# Altium schematic symbol library UWRT_Schematic_Library_2020.SchLib: 205 symbols (part 4 of 4)
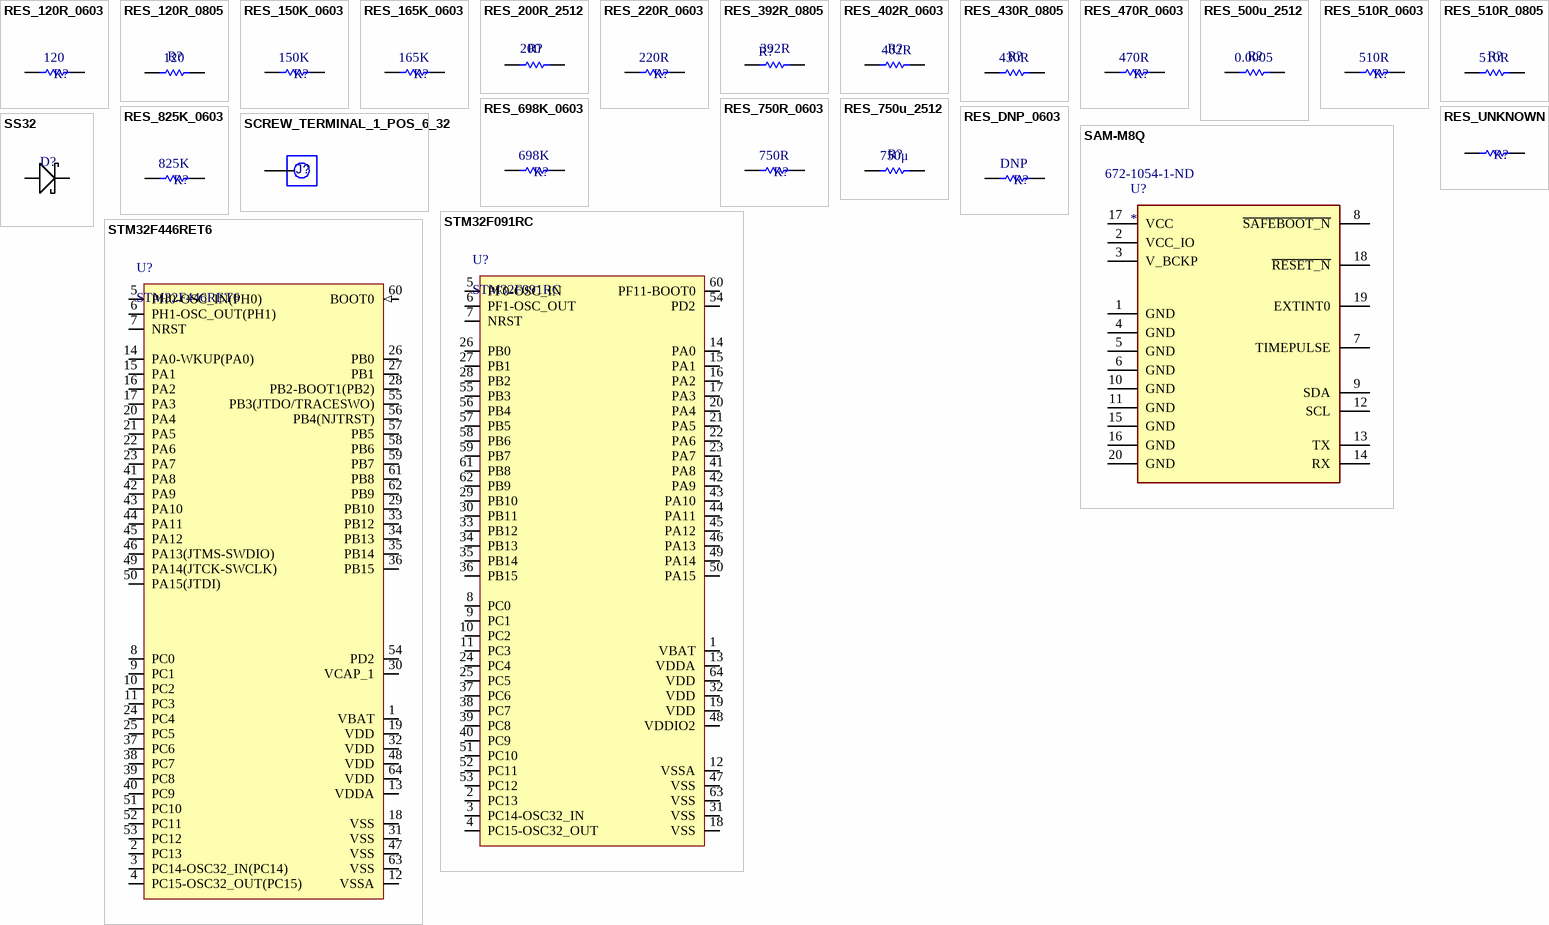
[diagram p8: symbols RES_120R_0603 to STM32F446RET6]

## STM32F446RET6
designator U?
IC MCU 32BIT 512KB FLASH 64LQFP; Manufacturer 1: STMicroelectronics; Manufacturer Part Number 1: LF80CDT-TR; Supplier 1: Digi-Key; Supplier Part Number 1: 497-15376-ND; Mount: Surface Mount
footprint STM_LQFP64_N (Thin QFP, 64-Leads, Body 10x10mm, Pitch 0.5mm, IPC Medium Density)
pins: 1 VBAT (power), 2 PC13 (io) "PC13/EVENTOUT/TAMP_1/WKUP1", 3 PC14-OSC32_IN(PC14) (io) "PC14/EVENTOUT/OSC32_IN", 4 PC15-OSC32_OUT(PC15) (io) "PC15/EVENTOUT/OSC32_OUT", 5 PH0-OSC_IN(PH0) (io) "PH0/EVENTOUT/OSC_IN", 6 PH1-OSC_OUT(PH1) (io) "PH1/EVENTOUT/OSC_OUT", 7 NRST (io), 8 PC0 (io) "PC0/SAI1_MCLK_B,OTG_HS_ULPI_STP,FMC_SDNWE,EVENTOUT/ADC123_IN10", 9 PC1 (io) "PC1/SPI3_MOSI/I2S3_SD,SAI1_SD_A,SPI2_MOSI/I2S2_SD,EVENTOUT/ADC123_IN11", 10 PC2 (io) "PC2/SPI2_MISO,OTG_HS_ULPI_DIR,FMC_SDNE0,EVENTOUT/ADC123_IN12", 11 PC3 (io) "PC3/SPI2_MOSI/I2S2_SD,OTG_HS_ULPI_NXT,FMC_SDCKE0,EVENTOUT/ADC123_IN13", 12 VSSA (power), 13 VDDA (power), 14 PA0-WKUP(PA0) (io) "PA0-WKUP(PA0)/TIM2_CH1/TIM2_ETR,TIM5_CH1,TIM8_ETR,USART2_CTS,UART4_TX,EVENTOUT/ADC123_IN0,WKUP0/TAMP_2", 15 PA1 (io) "PA1/TIM2_CH2,TIM5_CH2,USART2_RTS,UART4_RX,QUADSPI_BK1_IO3,SAI2_MCLK_B,EVENTOUT/ADC123_IN1", 16 PA2 (io) "PA2/TIM2_CH3,TIM5_CH3,TIM9_CH1,USART2_TX,SAI2_SCK_B,EVENTOUT/ADC123_IN2", 17 PA3 (io) "PA3/TIM2_CH4,TIM5_CH4,TIM9_CH2,SAI1_FS_A,USART2_RX,OTG_HS_ULPI_D0,EVENTOUT/ADC123_IN3", 18 VSS (power), 19 VDD (power), 20 PA4 (io) "PA4/SPI1_NSS/I2S1_WS,SPI3_NSS/I2S3_WS,USART2_CK,OTG_HS_SOF,DCMI_HSYNC,EVENTOUT/ADC12_IN4,DAC_OUT1", 21 PA5 (io) "PA5/TIM2_CH1/TIM2_ETR,TIM8_CH1N,SPI1_SCK/I2S1_CK,OTG_HS_ULPI_CK,EVENTOUT/ADC12_IN5,DAC_OUT2", 22 PA6 (io) "PA6/TIM1_BKIN,TIM3_CH1,TIM8_BKIN,SPI1_MISO,I2S2_MCK,TIM13_CH1,DCMI_PIXCLK,EVENTOUT/ADC12_IN6", 23 PA7 (io) "PA7/TIM1_CH1N,TIM3_CH2,TIM8_CH1N,SPI1_MOSI/I2S1_SD,TIM14_CH1,FMC_SDNWE,EVENTOUT/ADC12_IN7", 24 PC4 (io) "PC4/I2S1_MCK,SPDIFRX_IN2,FMC_SDNE0,EVENTOUT/ADC12_IN14", 25 PC5 (io) "PC5/USART3_RX,SPDIFRX_IN3,FMC_SDCKE0,EVENTOUT/ADC12_IN15", 26 PB0 (io) "PB0/TIM1_CH2N,TIM3_CH3,TIM8_CH2N,SPI3_MOSI/I2S3_SD,UART4_CTS,OTG_HS_ULPI_D1,SDIO_D1,EVENTOUT/ADC12_IN8", 27 PB1 (io) "PB1/TIM1_CH3N,TIM3_CH4,TIM8_CH3N,OTG_HS_ULPI_D2,SDIO_D2,EVENTOUT/ADC12_IN9", 28 PB2-BOOT1(PB2) (io) "PB2-BOOT1(PB2)/TIM2_CH4,SAI1_SD_A,SPI3_MOSI/I2S3_SD,QUADSPI_CLK,OTG_HS_ULPI_D4,SDIO_CK,EVENTOUT", 29 PB10 (io) "PB10/TIM2_CH3,I2C2_SCL,SPI2_SCK/I2S2_CK,SAI1_SCK_A,USART3_TX,OTG_HS_ULPI_D3,EVENTOUT", 30 VCAP_1, 31 VSS (power), 32 VDD (power), 33 PB12 (io) "PB12/TIM1_BKIN,I2C2_SMBA,SPI2_NSS/I2S2_WS,SAI1_SCK_B,USART3_CK,CAN2_RX,OTG_HS_ULPI_D5,OTG_HS_ID,EVENTOUT", 34 PB13 (io) "PB13/TIM1_CH1N,SPI2_SCK/I2S2_CK,USART3_CTS,CAN2_TX,OTG_HS_ULPI_D6,EVENTOUT/OTG_HS_VBUS", 35 PB14 (io) "PB14/TIM1_CH2N,TIM8_CH2N,SPI2_MISO,USART3_RTS,TIM12_CH1,OTG_HS_DM,EVENTOUT", 36 PB15 (io) "PB15/RTC_REFIN,TIM1_CH3N,TIM8_CH3N,SPI2_MOSI/I2S2_SD,TIM12_CH2,OTG_HS_DP,EVENTOUT", 37 PC6 (io) "PC6/TIM3_CH1,TIM8_CH1,FMPI2C1_SCL,I2S2_MCK,USART6_TX,SDIO_D6,DCMI_D0,EVENTOUT", 38 PC7 (io) "PC7/TIM3_CH2,TIM8_CH2,FMPI2C1_SDA,SPI2_SCK/I2S2_CK,I2S3_MCK,SPDIFRX_IN1,USART6_RX,SDIO_D7,DCMI_D1,EVENTOUT", 39 PC8 (io) "PC8/TRACED0,TIM3_CH3,TIM8_CH3,UART5_RTS,USART6_CK,SDIO_D0,DCMI_D2,EVENTOUT", 40 PC9 (io) "PC9/MCO2,TIM3_CH4,TIM8_CH4,I2C3_SDA,I2S_CKIN,UART5_CTS,QUADSPI_BK1_IO0,SDIO_D1,DCMI_D3,EVENTOUT", 41 PA8 (io) "PA8/MCO1,TIM1_CH1,I2C3_SCL,USART1_CK,OTG_FS_SOF,EVENTOUT", 42 PA9 (io) "PA9/TIM1_CH2,I2C3_SMBA,SPI2_SCK/I2S2_CK,SAI1_SD_B,USART1_TX,DCMI_D0,EVENTOUT/OTG_FS_VBUS", 43 PA10 (io) "PA10/TIM1_CH3,USART1_RX,OTG_FS_ID,DCMI_D1,EVENTOUT", 44 PA11 (io) "PA11/TIM1_CH4,USART1_CTS,CAN1_RX,OTG_FS_DM,EVENTOUT", 45 PA12 (io) "PA12/TIM1_ETR,USART1_RTS,SAI2_FS_B,CAN1_TX,OTG_FS_DP,EVENTOUT", 46 PA13(JTMS-SWDIO) (io) "PA13/JTMS-SWDIO,EVENTOUT", 47 VSS (power), 48 VDD (power), 49 PA14(JTCK-SWCLK) (io) "PA14/JTCK-SWCLK,EVENTOUT", 50 PA15(JTDI) (io) "PA15/JTDI,TIM2_CH1/TIM2_ETR,HDMI_CEC,SPI1_NSS/I2S1_WS,SPI3_NSS/I2S3_WS,UART4_RTS,EVENTOUT", 51 PC10 (io) "PC10/SPI3_SCK/I2S3_CK,USART3_TX,UART4_TX,QUADSPI_BK1_IO1,SDIO_D2,DCMI_D8,EVENTOUT", 52 PC11 (io) "PC11/SPI3_MISO,USART3_RX,UART4_RX,QUADSPI_BK2_NCS,SDIO_D3,DCMI_D4,EVENTOUT", 53 PC12 (io) "PC12/I2C2_SDA,SPI3_MOSI/I2S3_SD,USART3_CK,UART5_TX,SDIO_CK,DCMI_D9,EVENTOUT", 54 PD2 (io) "PD2/TIM3_ETR,UART5_RX,SDIO_CMD,DCMI_D11,EVENTOUT", 55 PB3(JTDO/TRACESWO) (io) "PB3/JTDO/TRACESWO,TIM2_CH2,I2C2_SDA,SPI1_SCK/I2S1_CK,SPI3_SCK/I2S3_CK,EVENTOUT", 56 PB4(NJTRST) (io) "PB4/NJTRST,TIM3_CH1,I2C3_SDA,SPI1_MISO,SPI3_MISO,SPI2_NSS/I2S2_WS,EVENTOUT", 57 PB5 (io) "PB5/TIM3_CH2,I2C1_SMBA,SPI1_MOSI/I2S1_SD,SPI3_MOSI/I2S3_SD,CAN2_RX,OTG_HS_ULPI_D7,FMC_SDCKE1,DCMI_D10,EVENTOUT", 58 PB6 (io) "PB6/TIM4_CH1,HDMI_CEC,I2C1_SCL,USART1_TX,CAN2_TX,QUADSPI_BK1_NCS,FMC_SDNE1,DCMI_D5,EVENTOUT", 59 PB7 (io) "PB7/TIM4_CH2,I2C1_SDA,USART1_RX,SPDIFRX_IN0,FMC_NL,DCMI_VSYNC,EVENTOUT", 60 BOOT0 (in) "BOOT0/VPP", 61 PB8 (io) "PB8/TIM2_CH1/TIM2_ETR,TIM4_CH3,TIM10_CH1,I2C1_SCL,CAN1_RX,SDIO_D4,DCMI_D6,EVENTOUT", 62 PB9 (io) "PB9/TIM2_CH2,TIM4_CH4,TIM11_CH1,I2C1_SDA,SPI2_NSS/I2S2_WS,SAI1_FS_B,CAN1_TX,SDIO_D5,DCMI_D7,EVENTOUT", 63 VSS (power), 64 VDD (power)

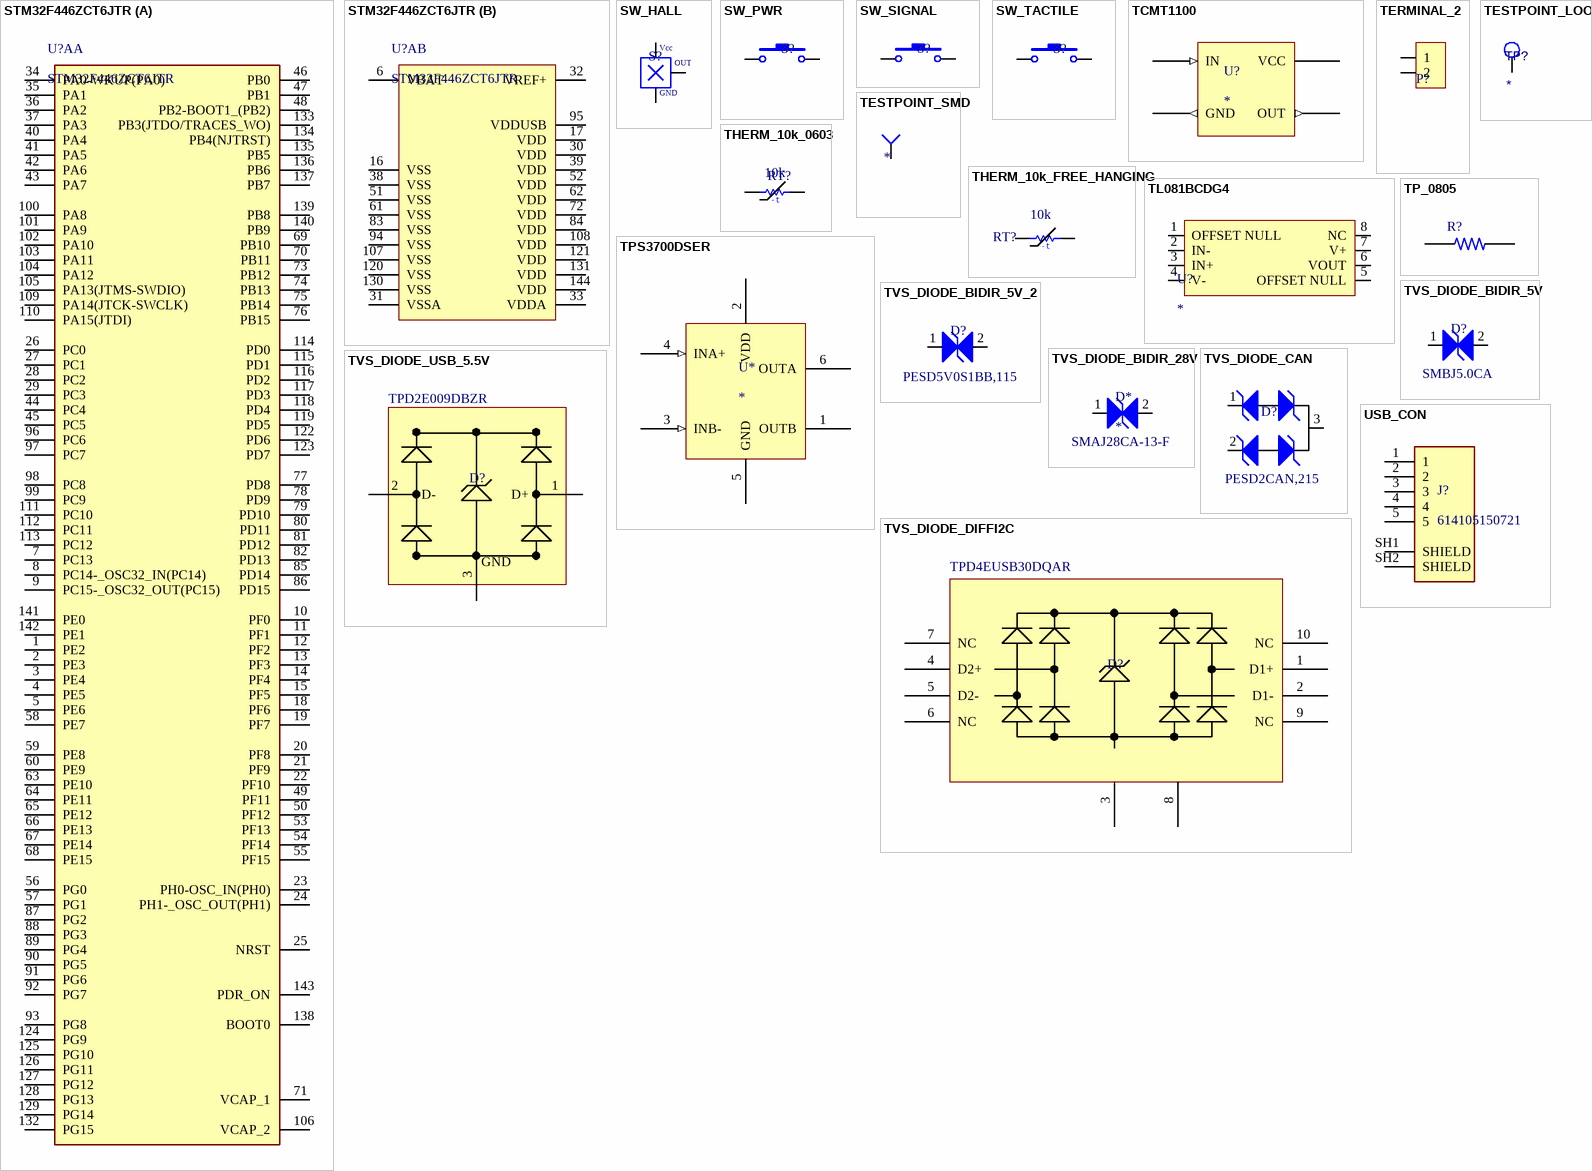
[diagram p5: symbols STM32F446ZCT6JTR to USB_CON]

## STM32F446ZCT6JTR
designator U?A
IC MCU 32BIT 256KB FLASH 144LQFP; Manufacturer_Name: STMicroelectronics; Datasheet Link: https://componentsearchengine.com/Datasheets/1/STM32F446ZCT6JTR.pdf; Height: 1.6mm; Manufacturer_Part_Number: STM32F446ZCT6JTR; Mouser Part Number: 511-STM32F446ZCT6JTR; Mouser Price/Stock: https://www.mouser.com/Search/Refine.aspx?Keyword=511-STM32F446ZCT6JTR
footprint QFP50P2200X2200X160-144N
part A pins: 1 PE2, 2 PE3, 3 PE4, 4 PE5, 5 PE6, 7 PC13, 8 PC14-_OSC32_IN(PC14), 9 PC15-_OSC32_OUT(PC15), 10 PF0, 11 PF1, 12 PF2, 13 PF3, 14 PF4, 15 PF5, 18 PF6, 19 PF7, 20 PF8, 21 PF9, 22 PF10, 23 PH0-OSC_IN(PH0), 24 PH1-_OSC_OUT(PH1), 25 NRST, 26 PC0, 27 PC1, 28 PC2, 29 PC3, 34 PA0-WKUP(PA0), 35 PA1, 36 PA2, 37 PA3, 40 PA4, 41 PA5, 42 PA6, 43 PA7, 44 PC4, 45 PC5, 46 PB0, 47 PB1, 48 PB2-BOOT1_(PB2), 49 PF11, 50 PF12, 53 PF13, 54 PF14, 55 PF15, 56 PG0, 57 PG1, 58 PE7, 59 PE8, 60 PE9, 63 PE10, 64 PE11, 65 PE12, 66 PE13, 67 PE14, 68 PE15, 69 PB10, 70 PB11, 71 VCAP_1, 73 PB12, 74 PB13, 75 PB14, 76 PB15, 77 PD8, 78 PD9, 79 PD10, 80 PD11, 81 PD12, 82 PD13, 85 PD14, 86 PD15, 87 PG2, 88 PG3, 89 PG4, 90 PG5, 91 PG6, 92 PG7, 93 PG8, 96 PC6, 97 PC7, 98 PC8, 99 PC9, 100 PA8, 101 PA9, 102 PA10, 103 PA11, 104 PA12, 105 PA13(JTMS-SWDIO), 106 VCAP_2, 109 PA14(JTCK-SWCLK), 110 PA15(JTDI), 111 PC10, 112 PC11, 113 PC12, 114 PD0, 115 PD1, 116 PD2, 117 PD3, 118 PD4, 119 PD5, 122 PD6, 123 PD7, 124 PG9, 125 PG10, 126 PG11, 127 PG12, 128 PG13, 129 PG14, 132 PG15, 133 PB3(JTDO/TRACES_WO), 134 PB4(NJTRST), 135 PB5, 136 PB6, 137 PB7, 138 BOOT0, 139 PB8, 140 PB9, 141 PE0, 142 PE1, 143 PDR_ON
part B pins: 6 VBAT, 16 VSS, 17 VDD, 30 VDD, 31 VSSA, 32 VREF+, 33 VDDA, 38 VSS, 39 VDD, 51 VSS, 52 VDD, 61 VSS, 62 VDD, 72 VDD, 83 VSS, 84 VDD, 94 VSS, 95 VDDUSB, 107 VSS, 108 VDD, 120 VSS, 121 VDD, 130 VSS, 131 VDD, 144 VDD

## SW_HALL
designator S?  (value not drawn)
HALL EFFECT SWITCH; Manufacturer 1: Texas Instruments; Manufacturer Part Number 1: DRV5011ADDBZR; Logic Function: Latch; Max Supply Current: 3mA; Max Output Current: 30mA; Supplier 1: Digi-Key; Stock 1: 2421; Pricing 1: 1=0.89000, 5=0.84200, 10=0.73300, 25=0.64360, 50=0.53460, 100=0.45540, 500=0.39600, 1000=0.34650 (USD); RoHS: No; Case/Package: TO-236-3; Min Operating Temperature: -40°C; Max Operating Temperature: 135°C; Packaging: Tape and Reel; Sensing Method: Hall Effect; ComponentLink1URL: http://www.ti.com/general/docs/suppproductinfo.tsp?distId=10&amp;gotoUrl=http%3A%2F%2Fwww.ti.com%2Flit%2Fgpn%2Fdrv5011&src-supplier=Digi-Key; ComponentLink1Description: http://www.ti.com/general/docs/suppproductinfo.tsp?distId=10&amp;gotoUrl=http%3A%2F%2Fwww.ti.com%2Flit%2Fgpn%2Fdrv5011&src-supplier=Digi-Key; ComponentLink2URL: http://www.ti.com/lit/ds/symlink/drv5011.pdf?src-supplier=Digi-Key; ComponentLink2Description: http://www.ti.com/lit/ds/symlink/drv5011.pdf?src-supplier=Digi-Key; Supplier Part Number 1: 296-49621-1-ND
footprint SOT23-3 (SOT23, 3-Leads, Body 2.90x2.30mm, Pitch 0.95mm, IPC Medium Density)
pins: 1, 2, 3
text: Vcc; OUT; GND

## SW_PWR
designator S?
Power Switch (Red); Manufacturer Part Number 1: PTS830GM140 SMTR LFS; Manufacturer 1: C&K; ComponentLink1Description: Datasheet; ComponentLink1URL: https://www.ckswitches.com/media/1478/pts830.pdf; Supplier Part Number 1: CKN10587CT-ND; Supplier 1: Digi-Key; Mount: Surface Mount
footprint PTS830GM140 (PWR TACTILE SWITCH (RED)); pin to pad 2>4
pins: 1, 2

## SW_SIGNAL
designator S?
Tactile Switch (Grey); Manufacturer Part Number 1: B3U-1100P; Manufacturer 1: Omron Electronics Inc-EMC Div; Supplier Part Number 1: SW1021TR-ND; Supplier 1: Digi-Key; Mount: Surface Mount
footprint B3U-1100P (TACTILE SWITCH GREY)
pins: 1, 2

## SW_TACTILE
designator S?
Tactile Switch (Grey); Manufacturer Part Number 1: B3U-1100P; Manufacturer 1: Omron Electronics Inc-EMC Div; Supplier 1: Digi-Key; Supplier Part Number 1: SW1021CT-ND; Mount: Surface Mount
footprint B3U-1100P (TACTILE SWITCH GREY)
pins: 1, 2

## TCMT1100
designator U?
OPTOISOLATOR 1 CHANNEL 4-SOP; Manufacturer 1: Vishay Semiconductor Opto Division; Manufacturer Part Number 1: TCMT1100; Supplier 1: Digi-Key; Supplier Part Number 1: TCMT1100TR-ND; Mount: Surface Mount
footprint SOP-4L_TC
pins: 1 IN (in) "High voltage signal in", 2 GND (out), 3 OUT (out) "Low voltage signal out", 4 VCC "Low voltage source"

## TERMINAL_2
designator P?
Header, 2-Pin; Manufacturer Part Number 1: OSTYK51102030; Manufacturer 1: On Shore Technology Inc.; Supplier Part Number 1: ED2953-ND; Supplier 1: Digi-Key; Mount: Through Hole
signal-integrity model Connector
footprint OSTYK51102030 (Connector; Header; 2 Position)
pins: 1, 2

## TESTPOINT_LOOP
designator TP?
Loop testpoint through-hole pad; Manufacturer 1: Keystone Electronics; Manufacturer Part Number 1: 5002; Supplier Part Number 1: 36-5002-ND; Supplier 1: Digi-Key; Mount: Through Hole
footprint TESTPOINT_LOOP
pins: 1

## TESTPOINT_SMD
designator TP?
TESTPOINT_SMD; Part Number (MPN): *
footprint TESTPOINT
pins: 1 =value

## THERM_10k_0603
designator RT?  Resistance: 10k  (hidden comment: *)
THERMISTOR NTC 10K 1% OHM 0603; Manufacturer 1: TDK; Manufacturer Part Number 1: NTCG163JF103FT1; Supplier 1: Digi-Key; Stock 1: 94107; Pricing 1: 1=0.25000, 5=0.23600, 10=0.20900, 25=0.19240, 50=0.15400, 100=0.13200, 500=0.11550, 1000=0.09900 (USD); RoHS: Yes; Mount: Surface Mount; Case/Package: 0603; Number of Pins: 2; Case Code (Imperial): 0603; Case Code (Metric): 1608; Min Operating Temperature: -40°C; Max Operating Temperature: 125°C; Package Quantity: 4000; Tolerance: 1%; Packaging: Tape and Reel; Accuracy: 1%; Length: 1.6mm; Height: 0.8mm; Depth: 0.8mm; Radiation Hardening: No; Lead Free: Lead Free; ComponentLink1URL: https://datasheet.ciiva.com/11822/0900766b80feea16-11822415.pdf?src-supplier=RSComponents; ComponentLink1Description: https://datasheet.ciiva.com/11822/0900766b80feea16-11822415.pdf?src-supplier=RSComponents; ComponentLink2URL: https://datasheet.ciiva.com/2848/ntcg163jf103ft1-web-2848612.pdf?src-supplier=Digi-Key; ComponentLink2Description: https://datasheet.ciiva.com/2848/ntcg163jf103ft1-web-2848612.pdf?src-supplier=Digi-Key; ComponentLink3URL: https://datasheet.ciiva.com/2848/ntcg163jf103ft1-web-2848610.pdf?src-supplier=Digi-Key; ComponentLink3Description: https://datasheet.ciiva.com/2848/ntcg163jf103ft1-web-2848610.pdf?src-supplier=Digi-Key; ComponentLink4URL: https://datasheet.ciiva.com/2848/ntcg163jf103ft1-web-2848611.pdf?src-supplier=Digi-Key; ComponentLink4Description: https://datasheet.ciiva.com/2848/ntcg163jf103ft1-web-2848611.pdf?src-supplier=Digi-Key; Supplier Part Number 1: 445-2554-1-ND
footprint RESC0603(1608)_N (Chip Resistor, Body 1.6x0.8mm, IPC Medium Density)
pins: 1, 2
text: -t

## THERM_10k_FREE_HANGING
designator RT?  Resistance: 10k  (hidden comment: *)
THERMISTOR NTC 10KOHM 3380K BEAD; Manufacturer 1: Murata; Manufacturer Part Number 1: NXFT15XH103FA2B100; Power Rating: 7.5mW; Tolerance: 1%; Current Rating: 120uA; Max Power Dissipation: 100mW; Lead Diameter: 0.3mm; Supplier 1: Digi-Key; RoHS: Yes; Category: Interface ICs; Stock 1: 19053; Pricing 1: 1=0.91000, 5=0.86400, 10=0.75200, 25=0.66080, 50=0.54900, 100=0.46760, 500=0.40660, 1000=0.35578, 5000=0.31512 (USD); Mount: Free Hanging,Through Hole; Case/Package: Radial; Number of Pins: 2; Min Operating Temperature: -40°C; Max Operating Temperature: 125°C; Packaging: Bulk; Package Quantity: 1000; Termination: Wire; ComponentLink1URL: https://datasheet.ciiva.com/2849/r44e-2849356.pdf?src-supplier=Digi-Key; ComponentLink1Description: https://datasheet.ciiva.com/2849/r44e-2849356.pdf?src-supplier=Digi-Key; ComponentLink2URL: https://datasheet.ciiva.com/3282/r44e-3282445.pdf?src-supplier=Avnet; ComponentLink2Description: https://datasheet.ciiva.com/3282/r44e-3282445.pdf?src-supplier=Avnet
footprint PTH_THERMISTOR (Thermistor; Free Hanging)
pins: 1, 2
text: -t

## TL081BCDG4
designator U?
IC OPAMP JFET 3MHZ 8SOIC; Manufacturer Part Number 1: TL081BCD; Manufacturer 1: Texas Instruments; Supplier Part Number 1: 296-34259-5-ND; Supplier 1: Digi-Key; Mount: Surface Mount
footprint TL081BCDG4
pins: 1 OFFSET NULL, 2 IN-, 3 IN+, 4 V-, 5 OFFSET NULL, 6 VOUT, 7 V+, 8 NC

## TP_0805
designator R?
SMD TEST POINT; Manufacturer 1: TE Connectivity CGS; Manufacturer Part Number 1: RCT-0C; Resistance: 0mR; Current Rating: 2A; Tolerance: 0%; Power Rating: 0uW; SnapEDA_Link: https://www.snapeda.com/parts/RCT-0C/TE%20Connectivity%20AMP%20Connectors/view-part/492179/?ref=snap; Supplier 1: Digi-Key; Stock 1: 102584; Pricing 1: 1=0.24000, 10=0.22800, 25=0.19560, 50=0.16640, 100=0.15980, 250=0.14352, 500=0.13698, 1000=0.11416 (USD); RoHS: Yes; Mount: Surface Mount; Case/Package: 0805; Weight: 0.000194oz; Case Code (Imperial): 0805; Case Code (Metric): 2012; Min Operating Temperature: -55°C; Max Operating Temperature: 125°C; Packaging: Tape and Reel; Package Quantity: 2000; Termination: SMD/SMT; Length: 2mm; Height: 1.45mm; Depth: 1.2mm; Width: 1.2mm; Radiation Hardening: No; ELV: Compliant; REACH SVHC: No SVHC; ComponentLink1URL: https://datasheet.ciiva.com/1347/80691-1347408.pdf?src-supplier=Farnell; ComponentLink1Description: https://datasheet.ciiva.com/1347/80691-1347408.pdf?src-supplier=Farnell; ComponentLink2URL: https://datasheet.ciiva.com/11808/0900766b80b23b2c-11808713.pdf?src-supplier=RSComponents; ComponentLink2Description: https://datasheet.ciiva.com/11808/0900766b80b23b2c-11808713.pdf?src-supplier=RSComponents; ComponentLink3URL: https://datasheet.ciiva.com/1340/80691-1340020.pdf?src-supplier=Element14; ComponentLink3Description: https://datasheet.ciiva.com/1340/80691-1340020.pdf?src-supplier=Element14; ComponentLink4URL: https://datasheet.ciiva.com/22696/80691-22696538.pdf?src-supplier=Element14; ComponentLink4Description: https://datasheet.ciiva.com/22696/80691-22696538.pdf?src-supplier=Element14; ComponentLink5URL: https://datasheet.ciiva.com/30055/1773266-a-30055419.pdf?src-supplier=Onlinecomponents.com; ComponentLink5Description: https://datasheet.ciiva.com/30055/1773266-a-30055419.pdf?src-supplier=Onlinecomponents.com; Supplier Part Number 1: A106144CT-ND
footprint *RESC2012X65N
pins: 1, 2

## TPS3700DSER
designator U*
Comparator Window Open Drain 6-WSON (1.5x1.5)
footprint DSE0006A
pins: 1 OUTB (oc), 2 VDD (power), 3 INB- (in), 4 INA+ (in), 5 GND (power), 6 OUTA (oc)

## TVS_DIODE_BIDIR_5V
designator D?  Manufacturer Part Number 1: SMBJ5.0CA
TVS DIODE 5V 9.2V DO214AA; Manufacturer 1: Littelfuse; Direction: Bidirectional; Max Surge Current: 65.3A; Reverse Breakdown Voltage: 6.4V; Peak Pulse Power: 600W; Max Breakdown Voltage: 7V; ESD Protection: Yes; Package: DO-214AA, SMB; ComponentLink1Description: Datasheet; ComponentLink1URL: https://www.littelfuse.com/~/media/electronics/datasheets/tvs_diodes/littelfuse_tvs_diode_smbj_datasheet.pdf.pdf; Supplier Part Number 1: SMBJ5.0CALFCT-ND; Supplier 1: Digi-Key; Mount: Surface Mount; Min Operating Temperature: -65°C; Max Operating Temperature: 150°C; Reverse Standoff Voltage: 5V; Min Breakdown Voltage: 6.4V; Clamping Voltage: 9.2V; Breakdown Voltage: 6.4V; Polarity: Bidirectional; Power Dissipation: 600W; Peak Pulse Current: 65.3A; Composition: Zener
footprint TVS_DIODE_BIDIRECTIONAL
pins: 1, 2

## TVS_DIODE_BIDIR_5V_2
designator D?  Manufacturer Part Number 1: PESD5V0S1BB,115  (hidden comment: *)
TVS DIODE 5V 14V SOD-523; Manufacturer 1: Nexperia; Voltage - Reverse Standoff (Typ): 5V (Max); Voltage - Breakdown: 5.5V (Min); Supplier 1: Digi-Key; Stock 1: 221709; Pricing 1: 1=0.37000, 10=0.27200, 25=0.23840, 100=0.12940, 250=0.12876, 500=0.10558, 1000=0.07834 (USD); RoHS: No; ComponentLink1URL: https://www.mouser.com/ds/2/302/PESD5V0S1BA_BB_BL-1150699.pdf?src-supplier=Mouser; ComponentLink1Description: https://www.mouser.com/ds/2/302/PESD5V0S1BA_BB_BL-1150699.pdf?src-supplier=Mouser; ComponentLink2URL: http://www.farnell.com/datasheets/461331.pdf?src-supplier=Farnell; ComponentLink2Description: http://www.farnell.com/datasheets/461331.pdf?src-supplier=Farnell; ComponentLink3URL: http://www.farnell.com/datasheets/461331.pdf?src-supplier=Newark; ComponentLink3Description: http://www.farnell.com/datasheets/461331.pdf?src-supplier=Newark; ComponentLink4URL: https://assets.nexperia.com/documents/data-sheet/PESD5V0S1BA_BB_BL.pdf?src-supplier=Digi-Key; ComponentLink4Description: https://assets.nexperia.com/documents/data-sheet/PESD5V0S1BA_BB_BL.pdf?src-supplier=Digi-Key; Supplier Part Number 1: 1727-3838-1-ND; Voltage - Clamping (Max) @Ipp: 14V
footprint SOD523
pins: 1, 2

## TVS_DIODE_BIDIR_28V
designator D*  Manufacturer Part Number 1: SMAJ28CA-13-F
TVS DIODE 28V 45.4V SMA; Manufacturer 1: Diodes Incorporated; Polarity: Bidirectional; Voltage - Breakdown (Min): 31.1V; Current - Peak Pulse (10/1000 us): 8.8A; Power - Peak Pulse: 400W; Packaging: Cut Tape (CT); Type: Zener; Voltage - Reverse Standoff: 28V; Voltage - Clamping (Max) @ Ipp: 45.4V; Package/Case: DO-214AC, SMA; Supplier Part Number 1: SMAJ28CA-FDICT_ND; Supplier 1: Digi-Key
footprint TVS_DIODE_BIDIR_DO-214AC_SMA
pins: 1, 2

## TVS_DIODE_CAN
designator D?  Manufacturer Part Number 1: PESD2CAN,215
TVS DIODE 24V 41V SOT323-3; Manufacturer 1: Nexperia USA Inc.; Package: SC-70, SOT-323; ComponentLink1Description: Datasheet; ComponentLink1URL: https://assets.nexperia.com/documents/data-sheet/PESD1CAN-U.pdf; Supplier Part Number 1: 1727-3891-1-ND; Supplier 1: Digi-Key; Mount: Surface Mount
footprint TVS_DIODE_CAN (SOT23, 3-Leads, Body 2.95x2.80mm, Pitch 0.95mm, IPC Low Density)
pins: 1, 2, 3

## TVS_DIODE_DIFFI2C
designator D?  Manufacturer Part Number 1: TPD4EUSB30DQAR
TVS DIODE 5.5V 8V 10SON; Manufacturer 1: Texas Instruments; Direction: Unidirectional; Capacitance: 0.8pF; Current Rating: 5A; Number of Bidirectional Channels: 4; Peak Pulse Power: 45W; Power Line Protection: Yes; Breakdown Voltage: 7V; Data Rate: 6Gbps; Peak Pulse Current: 1A; Interface: USB; Supplier 1: Digi-Key; Stock 1: 68872; RoHS: Yes; Number of Pins: 10; Min Operating Temperature: -40°C; Max Operating Temperature: 85°C; Package Quantity: 1; Packaging: Tape and Reel; Reverse Standoff Voltage: 5.5V; Min Breakdown Voltage: 8V; Clamping Voltage: 8V; Number of Channels: 4; Mount: Surface Mount; Working Voltage: 5.5V; ESD Protection: Yes; Length: 2.5mm; Height: 0.5mm; Width: 1.1mm; Depth: 1mm; Radiation Hardening: No; Lead Free: Lead Free; ComponentLink1URL: https://datasheet.ciiva.com/339/tpd4eusb30-339202.pdf?src-supplier=Digi-Key; ComponentLink1Description: https://datasheet.ciiva.com/339/tpd4eusb30-339202.pdf?src-supplier=Digi-Key; ComponentLink2URL: https://datasheet.ciiva.com/15134/getdatasheetpartid-299321-15134669.pdf?src-supplier=Verical; ComponentLink2Description: https://datasheet.ciiva.com/15134/getdatasheetpartid-299321-15134669.pdf?src-supplier=Verical; ComponentLink3URL: https://datasheet.ciiva.com/41659/1634000-41659268.pdf?src-supplier=Farnell; ComponentLink3Description: https://datasheet.ciiva.com/41659/1634000-41659268.pdf?src-supplier=Farnell; ComponentLink4URL: https://datasheet.ciiva.com/339/tpd4eusb30-339204.pdf?src-supplier=Digi-Key; ComponentLink4Description: https://datasheet.ciiva.com/339/tpd4eusb30-339204.pdf?src-supplier=Digi-Key; ComponentLink5URL: https://datasheet.ciiva.com/1504/1882087-1504249.pdf?src-supplier=Element14; ComponentLink5Description: https://datasheet.ciiva.com/1504/1882087-1504249.pdf?src-supplier=Element14; ComponentLink6URL: https://datasheet.ciiva.com/22621/1882087-22621482.pdf?src-supplier=Element14; ComponentLink6Description: https://datasheet.ciiva.com/22621/1882087-22621482.pdf?src-supplier=Element14; ComponentLink7URL: https://datasheet.ciiva.com/339/tpd4eusb30-339203.pdf?src-supplier=Digi-Key; ComponentLink7Description: https://datasheet.ciiva.com/339/tpd4eusb30-339203.pdf?src-supplier=Digi-Key; Supplier Part Number 1: 296-28063-1-ND
footprint DQA10
pins: 1 D1+, 2 D1-, 3 GND, 4 D2+, 5 D2-, 6 NC, 7 NC, 8 GND, 9 NC, 10 NC

## TVS_DIODE_USB_5.5V
designator D?  Manufacturer Part Number: TPD2E009DBZR  (hidden comment: *)
ESD Suppressor Diode Arrays 8KV 3-Pin SOT-23 T/R; Manufacturer: Texas Instruments; Direction: Unidirectional; Operating Supply Voltage: 6V; Capacitance: 0.9pF; Number of Channels: 2; Current Rating: 100nA; Peak Pulse Current: 1A; Element Configuration: Dual; Reverse Standoff Voltage: 5.5V; Min Breakdown Voltage: 9V; Clamping Voltage: 8V; Peak Pulse Power: 45W; Power Line Protection: Yes; Breakdown Voltage: 7V; Interface: LVDS,PCIe,SATA; Supplier 1: Digi-Key; RoHS: Yes; Category: Interface ICs; Stock 1: 98615; Pricing 1: 1=0.56000, 10=0.48000, 25=0.44800, 100=0.33280, 250=0.31616, 500=0.25984, 1000=0.21120 (USD); Case/Package: SOT-23; Number of Pins: 3; Min Operating Temperature: -40°C; Max Operating Temperature: 85°C; Packaging: Tape and Reel; Package Quantity: 1; Number of Bidirectional Channels: 2; Termination: SMD/SMT; Max Power Dissipation: 45W; Working Voltage: 5.5V; Length: 2.92mm; Height: 1mm; Width: 1.3mm; Depth: 1.3mm; Radiation Hardening: No; REACH SVHC: No SVHC; Lead Free: Lead Free; ComponentLink1URL: https://datasheet.ciiva.com/353/tpd2e009-353266.pdf?src-supplier=Digi-Key; ComponentLink1Description: https://datasheet.ciiva.com/353/tpd2e009-353266.pdf?src-supplier=Digi-Key; ComponentLink2URL: https://datasheet.ciiva.com/15134/getdatasheetpartid-243395-15134537.pdf?src-supplier=Verical; ComponentLink2Description: https://datasheet.ciiva.com/15134/getdatasheetpartid-243395-15134537.pdf?src-supplier=Verical; ComponentLink3URL: https://datasheet.ciiva.com/4479/slvs953a-121037-4479453.pdf?src-supplier=Mouser; ComponentLink3Description: https://datasheet.ciiva.com/4479/slvs953a-121037-4479453.pdf?src-supplier=Mouser; ComponentLink4URL: https://datasheet.ciiva.com/353/tpd2e009-353268.pdf?src-supplier=Digi-Key; ComponentLink4Description: https://datasheet.ciiva.com/353/tpd2e009-353268.pdf?src-supplier=Digi-Key; ComponentLink5URL: https://datasheet.ciiva.com/353/tpd2e009-353267.pdf?src-supplier=Digi-Key; ComponentLink5Description: https://datasheet.ciiva.com/353/tpd2e009-353267.pdf?src-supplier=Digi-Key; ComponentLink6URL: https://datasheet.ciiva.com/46384/1707898-46384524.pdf?src-supplier=Element14; ComponentLink6Description: https://datasheet.ciiva.com/46384/1707898-46384524.pdf?src-supplier=Element14; Supplier Part Number 1: 296-24657-1-ND
footprint SOT23-3 (SOT23, 3-Leads, Body 2.90x2.30mm, Pitch 0.95mm, IPC Medium Density)
pins: 1 D+, 2 D-, 3 GND

## USB_CON
designator J?, comment 614105150721
USB - micro B USB 2.0 Receptacle Connector 5 Position Through Hole; Manufacturer 1: Wurth Electronics; Package: None; Supplier Part Number 1: 732-5958-1-ND; Manufacturer Part Number 1: 614105150721; SnapEDA_Link: https://www.snapeda.com/parts/614105150721/Wurth%20Electronics%20Inc./view-part/1118291/?ref=snap; Value: *; Digi-Key_Purchase_URL: https://www.digikey.com/product-detail/en/w-rth-elektronik/614105150721/732-5958-1-ND/5047553?utm_source=snapeda&utm_medium=aggregator&utm_campaign=symbol; Supplier 1: Digi-Key
footprint USB_CON (WURTH_614105150721)
pins: 1, 2, 3, 4, 5, SH1 SHIELD, SH2 SHIELD